# Altium footprint library PCB_Module.PcbLib: 3 footprints
Each footprint in its own frame and in the unit in brackets; x right, y up, seen from the top. Pads: shape width x height; smd on the part's side, far side on the other; paste and mask are expansions set on the pad; w line width, h text height; cw(c..) or ccw(c..) is an arc to the next point about the centre after c.
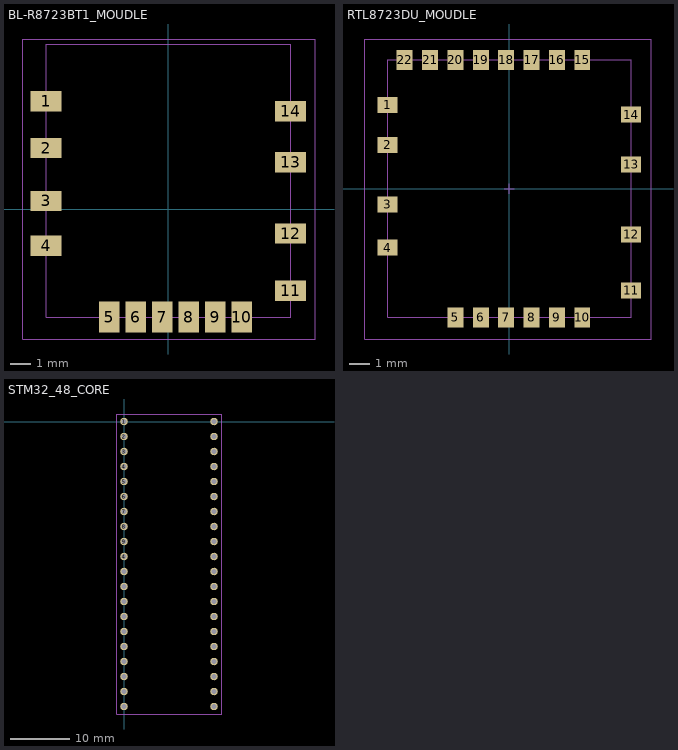
[diagram p0: the footprints below, top view; thin cyan lines are the x and y axes]

## BL-R8723BT1_MOUDLE [mm]
pads (14):
  rect 1.524x1 smd: 1(-6,5.3) 2(-6,3) 3(-6,0.4) 4(-6,-1.8) 11(6,-4) 12(6,-1.2) 13(6,2.3) 14(6,4.8)
  rect 1x1.524 smd: 5(-2.9,-5.3) 6(-1.6,-5.3) 7(-0.3,-5.3) 8(1,-5.3) 9(2.3,-5.3) 10(3.6,-5.3)
Top Assembly (Mech13):
  lines w0.051: -6,-5.3 -6,8.1 6,8.1 6,-5.3 -6,-5.3
Top Component:
  lines w0.051: -7.143,-6.378 -7.143,8.354 7.208,8.354 7.208,-6.378 -7.143,-6.378
  text ".Designator" at -0.913,-0.714 h2.54
3D body: height 1.6, standoff 0.24, extent -6,-5.3 6,8.1

## RTL8723DU_MOUDLE [mm]
pads (22):
  rect 1x0.8 smd: 1(-6.1,4.19) 2(-6.1,2.19) 3(-6.1,-0.79) 4(-6.1,-2.95) 11(6.1,-5.09) 12(6.1,-2.29) 13(6.1,1.21) 14(6.1,3.71)
  rect 0.8x1 smd: 5(-2.7,-6.45) 6(-1.43,-6.45) 7(-0.16,-6.45) 8(1.11,-6.45) 9(2.38,-6.45) 10(3.65,-6.45) 15(3.65,6.45) 16(2.38,6.45) 17(1.11,6.45) 18(-0.16,6.45) 19(-1.43,6.45) 20(-2.7,6.45) 21(-3.97,6.45) 22(-5.24,6.45)
Top Assembly (Mech13):
  lines w0.051: -0.254,0 0.254,0 ; 0,-0.254 0,0.254 ; -6.1,-6.45 -6.1,6.45 6.1,6.45 6.1,-6.45 -6.1,-6.45
Top Component:
  lines w0.051: -7.243,-7.528 -7.243,7.493 7.108,7.493 7.108,-7.528 -7.243,-7.528
  text ".Designator" at -1.016,-0.762 h2.54
3D body: height 0.8, standoff 0, extent -5.9,-6.45 6.1,6.45

## STM32_48_CORE [mil]
height 169.29
pads (40):
  round 50 hole 32: 1(0,0) 2(0,-100) 3(0,-200) 4(0,-300) 5(0,-400) 6(0,-500) 7(0,-600) 8(0,-700) 9(0,-800)
  round 50 hole 32.01: 4(0,-900) 11(0,-1000) 12(0,-1100) 13(0,-1200) 14(0,-1300) 15(0,-1400) 16(0,-1500) 17(0,-1600) 18(0,-1700) 19(0,-1800) 20(0,-1900) 21(600,-1900) 22(600,-1800) 23(600,-1700) 24(600,-1600) 25(600,-1500) 26(600,-1400) 27(600,-1300) 28(600,-1200) 29(600,-1100) 30(600,-1000) 31(600,-900) 32(600,-800) 33(600,-700) 34(600,-600) 35(600,-500) 36(600,-400) 37(600,-300) 38(600,-200) 39(600,-100) 40(600,0)
Top Component:
  lines w2: -50,-1950 -50,50 650,50 650,-1950 -50,-1950